# EAGLE library part PCIE-098-02-X-D-TH (library Z_BUS)
PCI EXPRESS CARD CONNECTOR ,98 PINS.
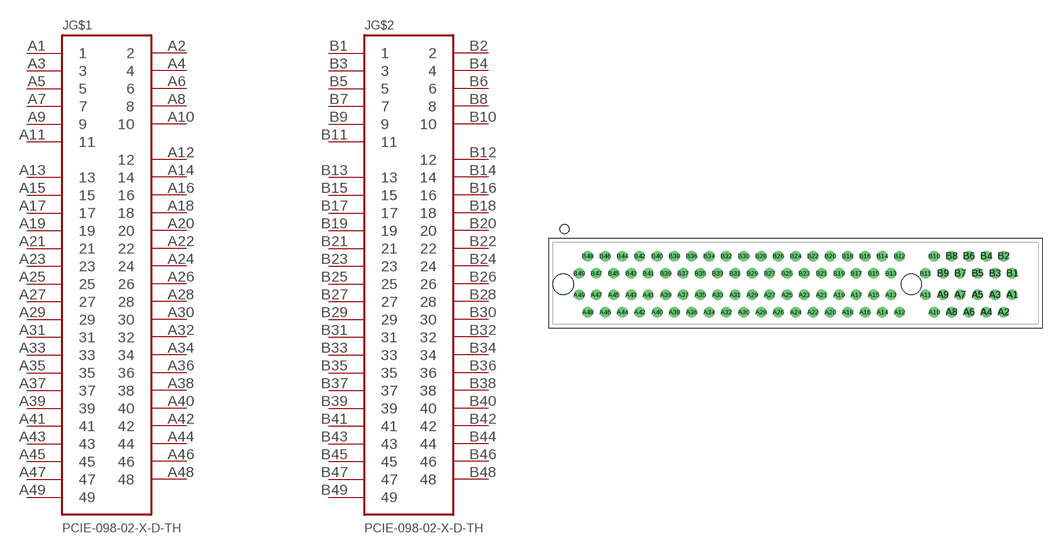
[diagram p0: symbol with the pads of PCIE-098-02-X-D-TH; footprint PCIE-098-02-X-D-TH]

Designator prefix J; gates G$1=PCIE-098-02-X-D-TH G$2=PCIE-098-02-X-D-TH

## PCIE-098-02-X-D-TH (AVAILABILITY: Unavailable; DESCRIPTION: 98 Position Female Connector PCI Express™ Gold 0.039 _1.00mm_ Black; MF: Samtec; MP: PCIE-098-02-F-D-TH; PACKAGE: None; PRICE: None)  [PCIE-098-02-X-D-TH]
A1  G$1:1
A2  G$1:2
A3  G$1:3
A4  G$1:4
A5  G$1:5
A6  G$1:6
A7  G$1:7
A8  G$1:8
A9  G$1:9
A10  G$1:10
A11  G$1:11
A12  G$1:12
A13  G$1:13
A14  G$1:14
A15  G$1:15
A16  G$1:16
A17  G$1:17
A18  G$1:18
A19  G$1:19
A20  G$1:20
A21  G$1:21
A22  G$1:22
A23  G$1:23
A24  G$1:24
A25  G$1:25
A26  G$1:26
A27  G$1:27
A28  G$1:28
A29  G$1:29
A30  G$1:30
A31  G$1:31
A32  G$1:32
A33  G$1:33
A34  G$1:34
A35  G$1:35
A36  G$1:36
A37  G$1:37
A38  G$1:38
A39  G$1:39
A40  G$1:40
A41  G$1:41
A42  G$1:42
A43  G$1:43
A44  G$1:44
A45  G$1:45
A46  G$1:46
A47  G$1:47
A48  G$1:48
A49  G$1:49
B1  G$2:1
B2  G$2:2
B3  G$2:3
B4  G$2:4
B5  G$2:5
B6  G$2:6
B7  G$2:7
B8  G$2:8
B9  G$2:9
B10  G$2:10
B11  G$2:11
B12  G$2:12
B13  G$2:13
B14  G$2:14
B15  G$2:15
B16  G$2:16
B17  G$2:17
B18  G$2:18
B19  G$2:19
B20  G$2:20
B21  G$2:21
B22  G$2:22
B23  G$2:23
B24  G$2:24
B25  G$2:25
B26  G$2:26
B27  G$2:27
B28  G$2:28
B29  G$2:29
B30  G$2:30
B31  G$2:31
B32  G$2:32
B33  G$2:33
B34  G$2:34
B35  G$2:35
B36  G$2:36
B37  G$2:37
B38  G$2:38
B39  G$2:39
B40  G$2:40
B41  G$2:41
B42  G$2:42
B43  G$2:43
B44  G$2:44
B45  G$2:45
B46  G$2:46
B47  G$2:47
B48  G$2:48
B49  G$2:49

## Footprint PCIE-098-02-X-D-TH (pad centres in mm)
PCI EXPRESS CARD CONNECTOR ,98 PINS.
drill 0.7 pad 1.1: A1 25,-1.24; A2 24,-3.24; A3 23,-1.24; A4 22,-3.24; A5 21,-1.24; A6 20,-3.24; A7 19,-1.24; A8 18,-3.24; A9 17,-1.24; A10 16,-3.24; A11 15,-1.24; A12 12,-3.24; A13 11,-1.24; A14 10,-3.24; A15 9,-1.24; A16 8,-3.24; A17 7,-1.24; A18 6,-3.24; A19 5,-1.24; A20 4,-3.24; A21 3,-1.24; A22 2,-3.24; A23 1,-1.24; A24 0,-3.24; A25 -1,-1.24; A26 -2,-3.24; A27 -3,-1.24; A28 -4,-3.24; A29 -5,-1.24; A30 -6,-3.24; A31 -7,-1.24; A32 -8,-3.24; A33 -9,-1.24; A34 -10,-3.24; A35 -11,-1.24; A36 -12,-3.24; A37 -13,-1.24; A38 -14,-3.24; A39 -15,-1.24; A40 -16,-3.24; A41 -17,-1.24; A42 -18,-3.24; A43 -19,-1.24; A44 -20,-3.24; A45 -21,-1.24; A46 -22,-3.24; A47 -23,-1.24; A48 -24,-3.24; A49 -25,-1.24; B1 25,1.24; B2 24,3.24; B3 23,1.24; B4 22,3.24; B5 21,1.24; B6 20,3.24; B7 19,1.24; B8 18,3.24; B9 17,1.24; B10 16,3.24; B11 15,1.24; B12 12,3.24; B13 11,1.24; B14 10,3.24; B15 9,1.24; B16 8,3.24; B17 7,1.24; B18 6,3.24; B19 5,1.24; B20 4,3.24; B21 3,1.24; B22 2,3.24; B23 1,1.24; B24 0,3.24; B25 -1,1.24; B26 -2,3.24; B27 -3,1.24; B28 -4,3.24; B29 -5,1.24; B30 -6,3.24; B31 -7,1.24; B32 -8,3.24; B33 -9,1.24; B34 -10,3.24; B35 -11,1.24; B36 -12,3.24; B37 -13,1.24; B38 -14,3.24; B39 -15,1.24; B40 -16,3.24; B41 -17,1.24; B42 -18,3.24; B43 -19,1.24; B44 -20,3.24; B45 -21,1.24; B46 -22,3.24; B47 -23,1.24; B48 -24,3.24; B49 -25,1.24
hole 2.35 at 13.35,0
hole 2.35 at -26.81,0